# Altium footprint library PcbLib1.PcbLib: 3 footprints
Each footprint in its own frame and in the unit in brackets; x right, y up, seen from the top. Pads: shape width x height; smd on the part's side, far side on the other; paste and mask are expansions set on the pad; w line width, h text height; cw(c..) or ccw(c..) is an arc to the next point about the centre after c.
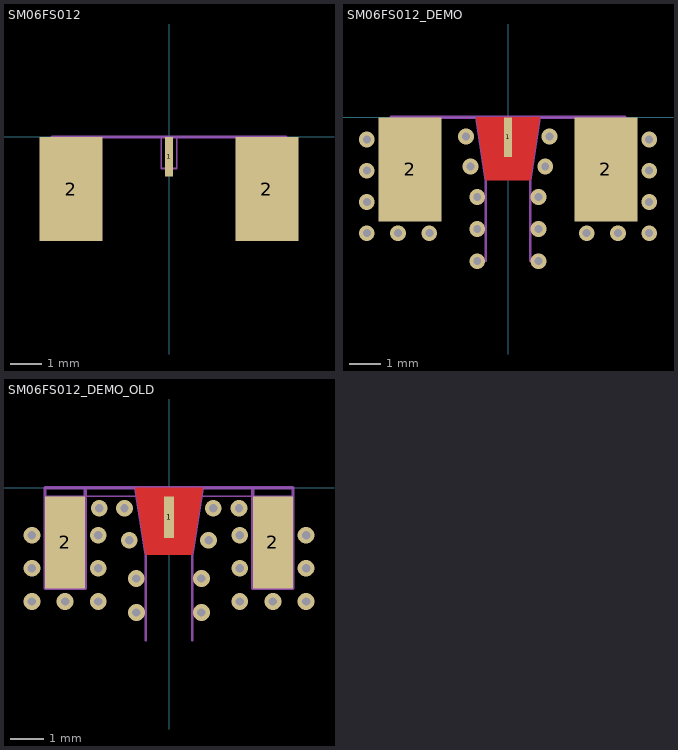
[diagram p0: the footprints below, top view; thin cyan lines are the x and y axes]

## SM06FS012 [mm]
pads (3):
  rect 0.254x1.25 smd: 1(0,-0.625)
  rect 2x3.3 smd: 2(-3.1,-1.65) 2(3.1,-1.65)
Mechanical 1:
  lines w0.05: -0.25,0 -0.25,-1 0.25,-1 0.25,0 ; 0,-1 0,0
  lines w0.1: -2.5,0 -2.5,-3 -3.7,-3 -3.7,0 -2.5,0 ; -2.5,0 0,0 2.5,0 ; 2.5,0 2.5,-3 3.7,-3 3.7,0 2.5,0
  text "Edge" at -0.916,0.267 h0.5
3D body "SM06FS012(1.6t).STEP": height 3.4, standoff -2.9, extent -3.7,-2.99 3.7,9.46

## SM06FS012_DEMO [mm]
pads (3):
  rect 0.254x1.25 smd: 1(0,-0.625)
  rect 2x3.3 smd: 2(-3.1,-1.65) 2(3.1,-1.65)
via 4.47,-0.701 diameter 0.5 hole 0.25
via 4.47,-3.668 diameter 0.5 hole 0.25
via 4.47,-2.679 diameter 0.5 hole 0.25
via 4.47,-1.69 diameter 0.5 hole 0.25
via 0.967,-2.524 diameter 0.5 hole 0.25
via -0.974,-2.524 diameter 0.5 hole 0.25
via 1.181,-1.559 diameter 0.5 hole 0.25
via 1.318,-0.606 diameter 0.5 hole 0.25
via -1.326,-0.606 diameter 0.5 hole 0.25
via -1.189,-1.559 diameter 0.5 hole 0.25
via -0.973,-3.54 diameter 0.5 hole 0.25
via 0.968,-3.54 diameter 0.5 hole 0.25
via -0.973,-4.556 diameter 0.5 hole 0.25
via 0.968,-4.556 diameter 0.5 hole 0.25
via 3.481,-3.668 diameter 0.5 hole 0.25
via 2.492,-3.668 diameter 0.5 hole 0.25
via -4.47,-0.701 diameter 0.5 hole 0.25
via -4.47,-3.668 diameter 0.5 hole 0.25
via -4.47,-2.679 diameter 0.5 hole 0.25
via -4.47,-1.69 diameter 0.5 hole 0.25
via -3.481,-3.668 diameter 0.5 hole 0.25
via -2.492,-3.668 diameter 0.5 hole 0.25
Top Layer:
  pour cut-out: -1,0 1,0 0.7,-2 -0.7,-2
Mechanical 1:
  lines w0.05: -0.25,0 -0.25,-1 0.25,-1 0.25,0 ; 0,-1 0,0
  lines w0.076: -1,0 -0.7,-2 -0.7,-4.54 ; 0.7,-4.54 0.7,-2 1,0
  lines w0.1: -2.5,0 0,0 2.5,0 ; -2.5,0 -3.7,0 -3.7,-3 -2.5,-3 -2.5,0 ; 2.5,0 3.7,0 3.7,-3 2.5,-3 2.5,0
  text "Edge" at -0.916,0.267 h0.5
3D body "SM06FS012(1.6t).STEP": height 3.4, standoff -2.9, extent -3.7,-2.99 3.7,9.46

## SM06FS012_DEMO_OLD [mm]
pads (3):
  rect 0.305x1.25 smd: 1(0,-0.875)
  rect 1.2x2.75 smd: 2(-3.1,-1.625) 2(3.1,-1.625)
via 3.1,-3.389 diameter 0.5 hole 0.25
via 4.089,-3.389 diameter 0.5 hole 0.25
via 2.111,-3.389 diameter 0.5 hole 0.25
via 4.089,-2.4 diameter 0.5 hole 0.25
via 4.089,-1.411 diameter 0.5 hole 0.25
via 2.111,-1.411 diameter 0.5 hole 0.25
via 2.111,-2.4 diameter 0.5 hole 0.25
via 2.088,-0.606 diameter 0.5 hole 0.25
via -3.1,-3.389 diameter 0.5 hole 0.25
via -2.111,-3.389 diameter 0.5 hole 0.25
via -4.089,-3.389 diameter 0.5 hole 0.25
via -2.111,-2.4 diameter 0.5 hole 0.25
via -2.111,-1.411 diameter 0.5 hole 0.25
via -4.089,-1.411 diameter 0.5 hole 0.25
via -4.089,-2.4 diameter 0.5 hole 0.25
via 0.967,-2.702 diameter 0.5 hole 0.25
via -0.974,-2.702 diameter 0.5 hole 0.25
via 1.181,-1.559 diameter 0.5 hole 0.25
via 1.318,-0.606 diameter 0.5 hole 0.25
via -2.078,-0.606 diameter 0.5 hole 0.25
via -1.326,-0.606 diameter 0.5 hole 0.25
via -1.189,-1.559 diameter 0.5 hole 0.25
via -0.973,-3.718 diameter 0.5 hole 0.25
via 0.968,-3.718 diameter 0.5 hole 0.25
Top Layer:
  pour cut-out: -1,0 1,0 0.7,-2 -0.7,-2
Mechanical 1:
  lines w0.05: -3.7,-0.25 -2.5,-0.25 2.5,-0.25 3.7,-0.25 ; 0,-0.875 0,0
  lines w0.076: -1,0 -0.7,-2 -0.7,-4.54 ; 0.7,-4.54 0.7,-2 1,0
  lines w0.1: -2.5,0 -2.5,-3 -3.7,-3 -3.7,0 -2.5,0 ; -2.5,0 0,0 2.5,0 ; 2.5,0 2.5,-3 3.7,-3 3.7,0 2.5,0
  text "Edge" at -0.916,0.267 h0.5
3D body "SM06FS012(1.6t).STEP": height 3.4, standoff -2.9, extent -3.7,-2.99 3.7,9.46